# EAGLE library part RPI_B+ (library Connector_for_Selfbus-Projects)
RPi-B+ und RPi-B2 HAT
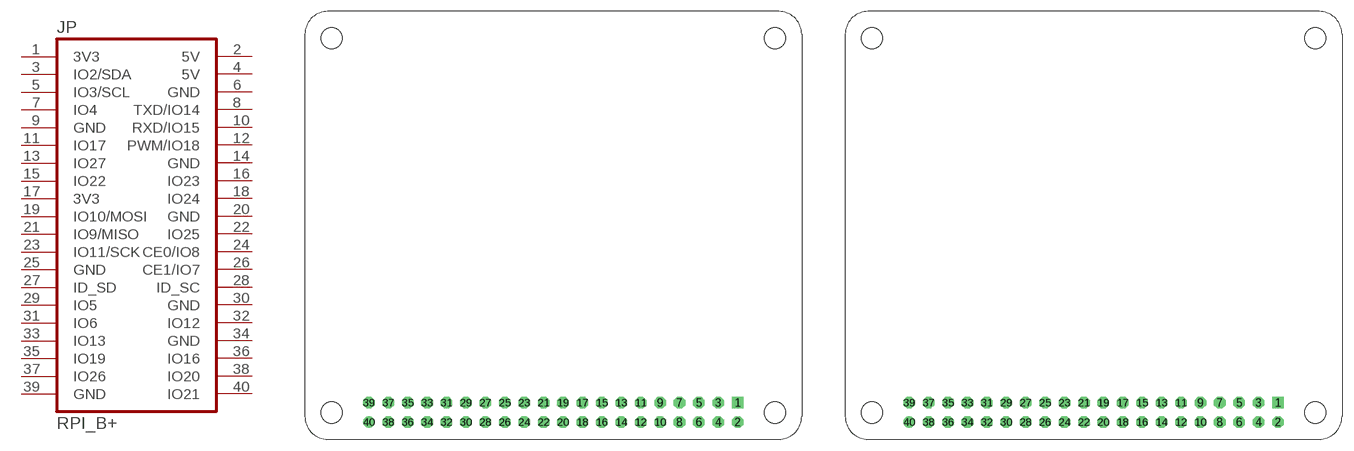
[diagram p1: symbol with the pads of RPI-B+HAT; footprints RPI-B+HAT, RPI-B+HAT-POS]

Designator prefix JP

## RPI_B+  [RPI-B+HAT]
1  3V3  pas
2  5V  pas
3  IO2/SDA  pas
4  5V  pas
5  IO3/SCL  pas
6  GND  pas
7  IO4  pas
8  TXD/IO14  pas
9  GND  pas
10  RXD/IO15  pas
11  IO17  pas
12  PWM/IO18  pas
13  IO27  pas
14  GND  pas
15  IO22  pas
16  IO23  pas
17  3V3  pas
18  IO24  pas
19  IO10/MOSI  pas
20  GND  pas
21  IO9/MISO  pas
22  IO25  pas
23  IO11/SCK  pas
24  CE0/IO8  pas
25  GND  pas
26  CE1/IO7  pas
27  ID_SD
28  ID_SC
29  IO5
30  GND
31  IO6
32  IO12
33  IO13
34  GND
35  IO19
36  IO16
37  IO26
38  IO20
39  GND
40  IO21

## RPI_B+POS  [RPI-B+HAT-POS]
Pads as for RPI-B+HAT

## Footprint RPI-B+HAT (pad centres in mm)
RPi-HAT
drill 1 square: 1 56.63,4.77
drill 1 octagon: 2 56.63,2.23; 3 54.09,4.77; 4 54.09,2.23; 5 51.55,4.77; 6 51.55,2.23; 7 49.01,4.77; 8 49.01,2.23; 9 46.47,4.77; 10 46.47,2.23; 11 43.93,4.77; 12 43.93,2.23; 13 41.39,4.77; 14 41.39,2.23; 15 38.85,4.77; 16 38.85,2.23; 17 36.31,4.77; 18 36.31,2.23; 19 33.77,4.77; 20 33.77,2.23; 21 31.23,4.77; 22 31.23,2.23; 23 28.69,4.77; 24 28.69,2.23; 25 26.15,4.77; 26 26.15,2.23; 27 23.61,4.77; 28 23.61,2.23; 29 21.07,4.77; 30 21.07,2.23; 31 18.53,4.77; 32 18.53,2.23; 33 15.99,4.77; 34 15.99,2.23; 35 13.45,4.77; 36 13.45,2.23; 37 10.91,4.77; 38 10.91,2.23; 39 8.37,4.77
drill 1: 40 8.37,2.23
hole 2.8 at 3.5,3.5
hole 2.8 at 3.5,52.5
hole 2.8 at 61.5,52.5
hole 2.8 at 61.5,3.5

## Footprint RPI-B+HAT-POS (pad centres in mm)
RPi-HAT with RPi-Connectors
drill 1 square: 1 56.63,4.77
drill 1 octagon: 2 56.63,2.23; 3 54.09,4.77; 4 54.09,2.23; 5 51.55,4.77; 6 51.55,2.23; 7 49.01,4.77; 8 49.01,2.23; 9 46.47,4.77; 10 46.47,2.23; 11 43.93,4.77; 12 43.93,2.23; 13 41.39,4.77; 14 41.39,2.23; 15 38.85,4.77; 16 38.85,2.23; 17 36.31,4.77; 18 36.31,2.23; 19 33.77,4.77; 20 33.77,2.23; 21 31.23,4.77; 22 31.23,2.23; 23 28.69,4.77; 24 28.69,2.23; 25 26.15,4.77; 26 26.15,2.23; 27 23.61,4.77; 28 23.61,2.23; 29 21.07,4.77; 30 21.07,2.23; 31 18.53,4.77; 32 18.53,2.23; 33 15.99,4.77; 34 15.99,2.23; 35 13.45,4.77; 36 13.45,2.23; 37 10.91,4.77; 38 10.91,2.23; 39 8.37,4.77
drill 1: 40 8.37,2.23
hole 2.8 at 3.5,52.5
hole 2.8 at 3.5,3.5
hole 2.8 at 61.5,3.5
hole 2.8 at 61.5,52.5